# Altium footprint library FallDetection.PcbLib: 17 footprints (part 2 of 2)
Each footprint in its own frame and in the unit in brackets; x right, y up, seen from the top. Pads: shape width x height; smd on the part's side, far side on the other; paste and mask are expansions set on the pad; w line width, h text height; cw(c..) or ccw(c..) is an arc to the next point about the centre after c.
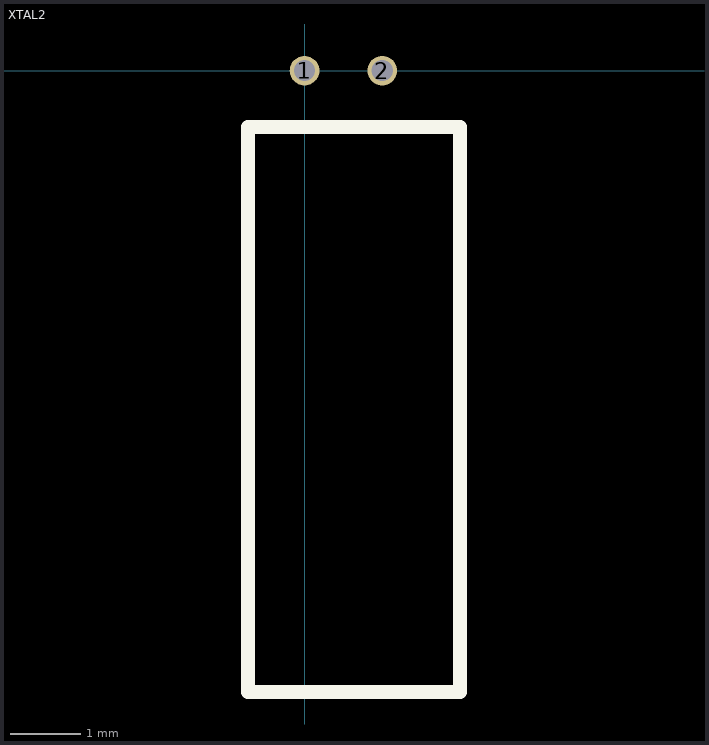
[diagram p1: the footprint, top view; thin cyan lines are the x and y axes]

## XTAL2 [mm] "32.768 KHz"
height 1
pads (2):
  round 0.42 hole 0.3: 1(0,0) 2(1.1,0)
Top Overlay:
  lines w0.2: -0.8,-8.8 -0.8,-0.8 2.2,-0.8 2.2,-8.8 -0.8,-8.8
Mechanical 15:
  lines w0.2: 0.5,-0.8 0.6,-0.8